# EAGLE library part 1725753 (library RocketControlBoard)
CONN TERM BLOCK 2.54MM 12POS
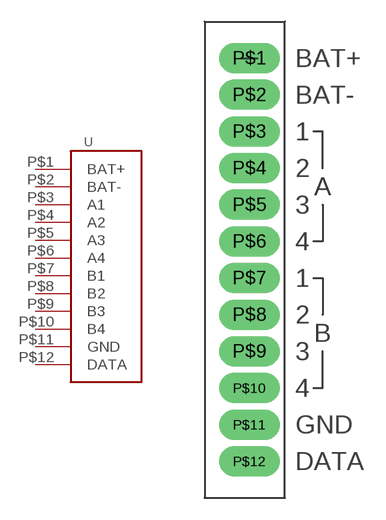
[diagram p10: symbol with the pads of 1725753; footprint 1725753]

Designator prefix -

## 1725753 (DESC: CONN TERM BLOCK 2.54MM 12POS; DIGIKEY#: 277-1283-ND; MANF: Phoenix Contact; MANF#: 1725753)  [1725753]
P$1  BAT+
P$2  BAT-
P$3  A1
P$4  A2
P$5  A3
P$6  A4
P$7  B1
P$8  B2
P$9  B3
P$10  B4
P$11  GND
P$12  DATA

## Footprint 1725753 (pad centres in mm)
drill 1.4 pad 1.778 long: P$1 0,0; P$2 0,-2.54; P$3 0,-5.08; P$4 0,-7.62; P$5 0,-10.16; P$6 0,-12.7; P$7 0,-15.24; P$8 0,-17.78; P$9 0,-20.32; P$10 0,-22.86; P$11 0,-25.4; P$12 0,-27.94